# EAGLE library part WF111 (library Bluegiga)
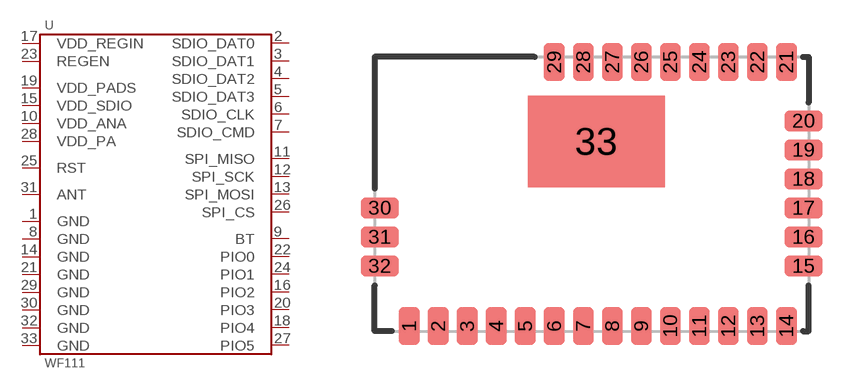
[diagram p2: symbol with the pads of WF111; footprint WF111]

Designator prefix U

## WF111  [WF111]
1  GND
2  SDIO_DAT0
3  SDIO_DAT1
4  SDIO_DAT2
5  SDIO_DAT3
6  SDIO_CLK
7  SDIO_CMD
8  GND
9  BT
10  VDD_ANA
11  SPI_MISO
12  SPI_SCK
13  SPI_MOSI
14  GND
15  VDD_SDIO
16  PIO2
17  VDD_REGIN
18  PIO4
19  VDD_PADS
20  PIO3
21  GND
22  PIO0
23  REGEN
24  PIO1
25  RST
26  SPI_CS
27  PIO5
28  VDD_PA
29  GND
30  GND
31  ANT
32  GND
33  GND

## Footprint WF111 (pad centres in mm)
smd 0.9 x 1.65: 1 -7.985,-5.775; 2 -6.715,-5.775; 3 -5.445,-5.775; 4 -4.175,-5.775; 5 -2.905,-5.775; 6 -1.635,-5.775; 7 -0.365,-5.775; 8 0.905,-5.775; 9 2.175,-5.775; 10 3.445,-5.775; 11 4.715,-5.775; 12 5.985,-5.775; 13 7.255,-5.775; 14 8.525,-5.775; 21 8.525,5.775; 22 7.255,5.775; 23 5.985,5.775; 24 4.715,5.775; 25 3.445,5.775; 26 2.175,5.775; 27 0.905,5.775; 28 -0.365,5.775; 29 -1.635,5.775
smd 1.65 x 0.9: 15 9.275,-3.15; 16 9.275,-1.88; 17 9.275,-0.61; 18 9.275,0.66; 19 9.275,1.93; 20 9.275,3.2; 30 -9.275,-0.61; 31 -9.275,-1.88; 32 -9.275,-3.15
smd 6 x 4: 33 0.2,2.3